# EAGLE library part 52892-1495 (library JLB6_Connec)
Support zif pour FPC 0.5mm molex 14 pts
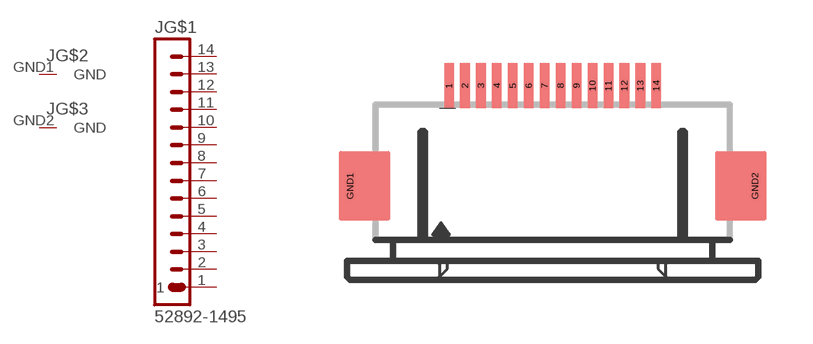
[diagram p46: symbol with the pads of 52892-1495; footprint 52892-1495]

Designator prefix J; gates G$1=1X14 G$2=GND G$3=GND

## 52892-1495  [52892-1495]
1  G$1:1  pas
2  G$1:2  pas
3  G$1:3  pas
4  G$1:4  pas
5  G$1:5  pas
6  G$1:6  pas
7  G$1:7  pas
8  G$1:8  pas
9  G$1:9  pas
10  G$1:10  pas
11  G$1:11  pas
12  G$1:12  pas
13  G$1:13  pas
14  G$1:14  pas
GND1  G$2:GND  pwr
GND2  G$3:GND  pwr

## Footprint 52892-1495 (pad centres in mm)
smd 0.3 x 1.4: 1 -3.25,2.5; 2 -2.75,2.5; 3 -2.25,2.5; 4 -1.75,2.5; 5 -1.25,2.5; 6 -0.75,2.5; 7 -0.25,2.5; 8 0.25,2.5; 9 0.75,2.5; 10 1.25,2.5; 11 1.75,2.5; 12 2.25,2.5; 13 2.75,2.5; 14 3.25,2.5; GND1 -6.35,-0.65; GND2 6.35,-0.65